# Altium schematic symbol library Schlib1.SchLib: 7 symbols
Pins are listed as number, name and electrical type; pins without a type are passive.

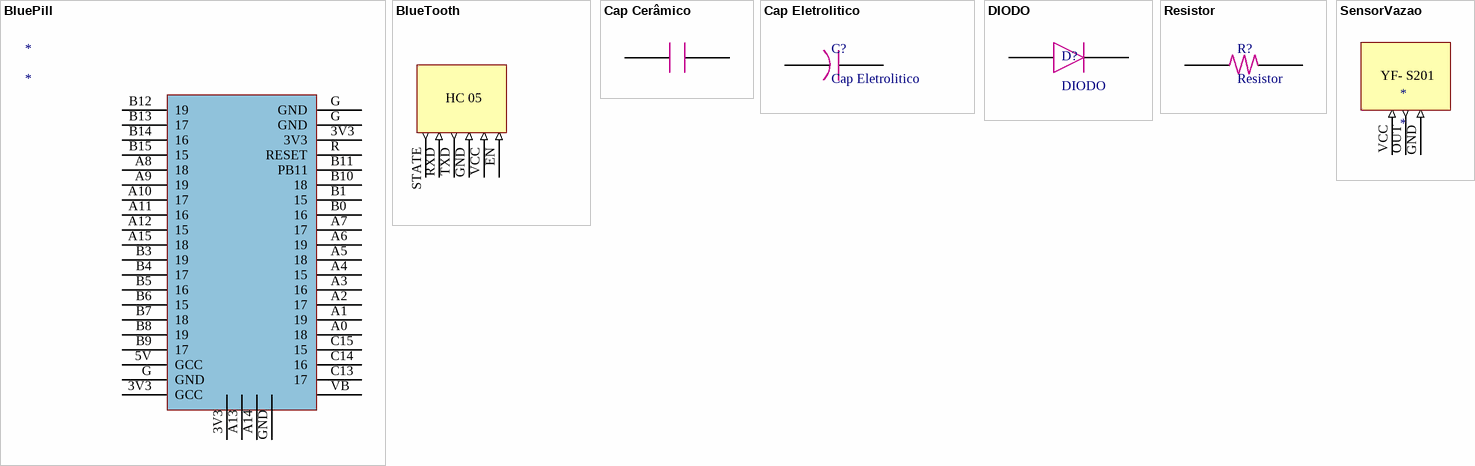
[diagram p0: symbols BluePill to SensorVazao]

## BluePill
designator *
pins: 3V3 GCC (power), 3V3 (power), 3V3 VB, 5V GCC (power), A0 18, A1 19, A2 17, A3 16, A4 15, A5 18, A6 19, A7 17, A8 18, A9 19, A10 17, A11 16, A12 15, A13 VB, A14 VB, A15 18, B0 16, B1 15, B3 19, B4 17, B5 16, B6 15, B7 18, B8 19, B9 17, B10 18, B11 PB11, B12 19, B13 17, B14 16, B15 15, C13 17, C14 16, C15 15, G GND, G GND, G GND, GND VB, R RESET, VB VBAT

## BlueTooth
designator B?, comment BlueTooth HC 05
pins: EN 2 (in), GND 2 (in), RXD 2 (in), STATE 1 (out), TXD 1 (out), VCC 1 (in)
text: HC 05

## Cap Cerâmico
designator C?, comment CAPACITOR  (value not drawn)
eVendor: Digikey; eVendorPart#: *; eVendorPrice: *; Manufacture: *; Moq: *; MSRP: *; PART#: *
pins: 2 Anado, 3 Catodo

## Cap Eletrolitico
designator C?
eVendorPart#: 732-6356-1-ND; Manufacture: Wurth Electronics Inc.; PART#: 870135175007; eVendor: Digikey; eVendorPrice: 1.72000; MSRP: 1.13400; MOQ: 250
pins: 1 Anado, 2 Catodo

## DIODO
designator D?
Zener Diode 6.2V 1W ±5% Through Hole DO-41G; eVendorPart#: 1N4735A-TPTR-ND; Manufacturer: Micro Commercial Co; PART#: 1N4735A-TP; eVendor: Digikey; eVendorPrice: 0.03600; Moq: 5000; MSRP: 0.03600
footprint Diodo (Diodo DO41)
pins: 1 A, 2 C

## Resistor
designator R?
eVendor: Digikey; eVendorPart#: *; eVendorPrice: *; Manufacture: *; Moq: *; MSRP: *; PART#: *
pins: 1 Anado, 2 Catodo

## SensorVazao
designator *
pins: GND 1 (in), OUT PWM (out), VCC 1 (in)
text: YF- S201